# Altium footprint library 8-SMDGW.PcbLib: 1 footprints
Each footprint in its own frame and in the unit in brackets; x right, y up, seen from the top. Pads: shape width x height; smd on the part's side, far side on the other; paste and mask are expansions set on the pad; w line width, h text height; cw(c..) or ccw(c..) is an arc to the next point about the centre after c.
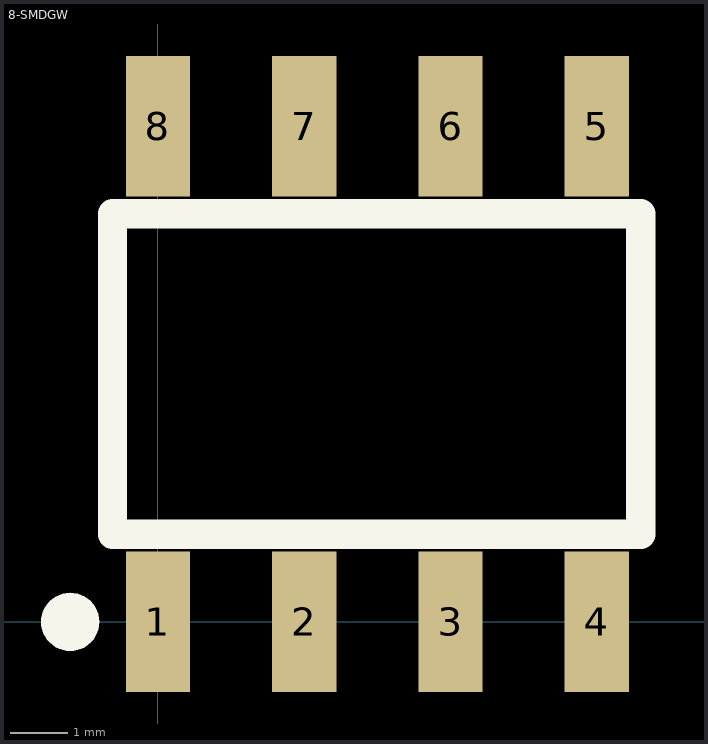
[diagram p0: the footprint, top view; thin cyan lines are the x and y axes]

## 8-SMDGW [mil]
pads (9):
  rect 44x96 smd: 1(0,0) 2(100,0) 3(200,0) 4(300,0) 5(300,339) 6(200,339) 7(100,339) 8(0,339)
  round 40 on Top Overlay: ""(-60,0)
TopOverlay:
  lines w20: -31,60 330,60 330,279 -31,279 -31,60
3D body: height 140, standoff 0, extent -30.98,60.02 329.98,278.98